# Altium footprint library BTA41-600BRG.PcbLib: 3 footprints
Each footprint in its own frame and in the unit in brackets; x right, y up, seen from the top. Pads: shape width x height; smd on the part's side, far side on the other; paste and mask are expansions set on the pad; w line width, h text height; cw(c..) or ccw(c..) is an arc to the next point about the centre after c.
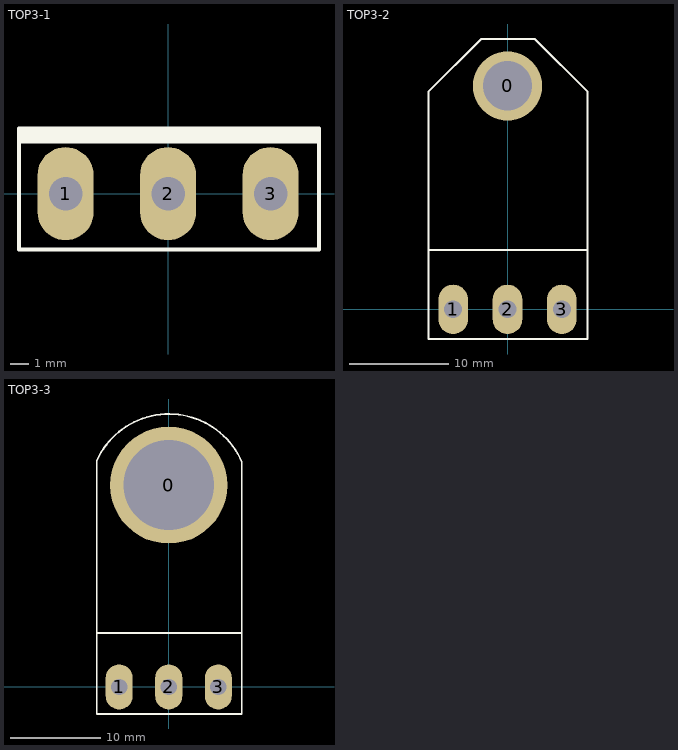
[diagram p0: the footprints below, top view; thin cyan lines are the x and y axes]

## TOP3-1 [mm]
pads (3):
  oval 3x5 hole 1.8: 1(-5.5,0) 2(0,0) 3(5.5,0)
Top Overlay:
  rectangle: -8,2.7 8.1,3.5
  lines w0.2: -8,-3 -8,3.5 8.1,3.5 8.1,-3 -8,-3
3D body: height 27.9, standoff -8, extent -7.75,-1.5 7.75,3

## TOP3-2 [mm]
pads (4):
  round 7 hole 5: 0(0,22.6)
  oval 3x5 hole 1.8: 1(-5.5,0) 2(0,0) 3(5.5,0)
Top Overlay:
  lines w0.2: -8,6 8.1,6 ; -8,-3 -8,22 -2.65,27.35 2.75,27.35 8.1,22 8.1,-3 -8,-3
3D body: height 4.5, standoff -4.1, extent -7.75,-0.2 7.75,27.149

## TOP3-3 [mm]
pads (4):
  round 13 hole 10: 0(0,22.4)
  oval 3x5 hole 1.8: 1(-5.5,0) 2(0,0) 3(5.5,0)
Top Overlay:
  lines w0.2: -8,6 8.1,6 ; -8,-3 8.1,-3 8.1,25 ccw(c0.028,21.505) -8,25.1 -8,-3
3D body: height 4.3, standoff -6, extent -7.75,-0.2 7.75,27.149